# Altium schematic symbol library TIL-2V.Schlib: 1 symbol
Pins are listed as number, name and electrical type; pins without a type are passive.

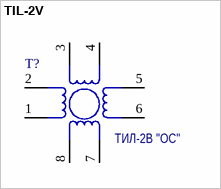
[diagram p0: symbol TIL-2V]

## TIL-2V
designator T?  Наименование: ТИЛ-2В "ОС"  (hidden comment: TIL-2V)
Импульсный трансформатор; Назначение: Импульсный трансформатор 1:1:1:1; Потребление, Вт: 0.0
footprint TIL-6V
pins: 1 (oc), 2 (oc), 3 (oc), 4 (oc), 5 (oc), 6 (oc), 7 (oc), 8 (oc)